# EAGLE library part MAX16150AUT+T (library MAX16150AUT+T)
Supervisory Circuits Nano-Power Pushbutton ON/OFF Controller with 15kV ESD Protection and Programmable Timer Source: Datasheet
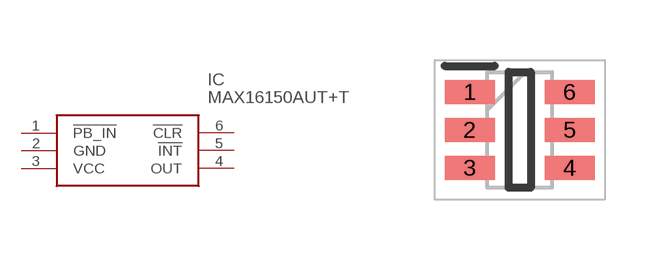
[diagram p0: symbol with the pads of SOT95P280X145-6N; footprint SOT95P280X145-6N]

Designator prefix IC

## MAX16150AUT+T (Description: Supervisory Circuits Nano-Power Pushbutton ON/OFF Controller with 15kV ESD Protection and Programmable Timer; Height: 1.45mm; Manufacturer_Name: Maxim Integrated; Manufacturer_Part_Number: MAX16150AUT+T; Mouser_Part_Number: 700-MAX16150AUT+T; Mouser_Price-Stock: https://www.mouser.co.uk/ProductDetail/Maxim-Integrated/MAX16150AUT%2bT?qs=wnTfsH77Xs5xR8unQygqcw%3D%3D)  [SOT95P280X145-6N]
1  !PB_IN
2  GND
3  VCC
4  OUT
5  !INT
6  !CLR

## Footprint SOT95P280X145-6N (pad centres in mm)
6 SOT23-6
smd 1.25 x 0.6: 1 -1.25,0.95; 2 -1.25,0; 3 -1.25,-0.95; 4 1.25,-0.95; 5 1.25,0; 6 1.25,0.95